# Altium footprint library CONN_TBLOCK_6P35.PcbLib: 9 footprints
Each footprint in its own frame and in the unit in brackets; x right, y up, seen from the top. Pads: shape width x height; smd on the part's side, far side on the other; paste and mask are expansions set on the pad; w line width, h text height; cw(c..) or ccw(c..) is an arc to the next point about the centre after c.
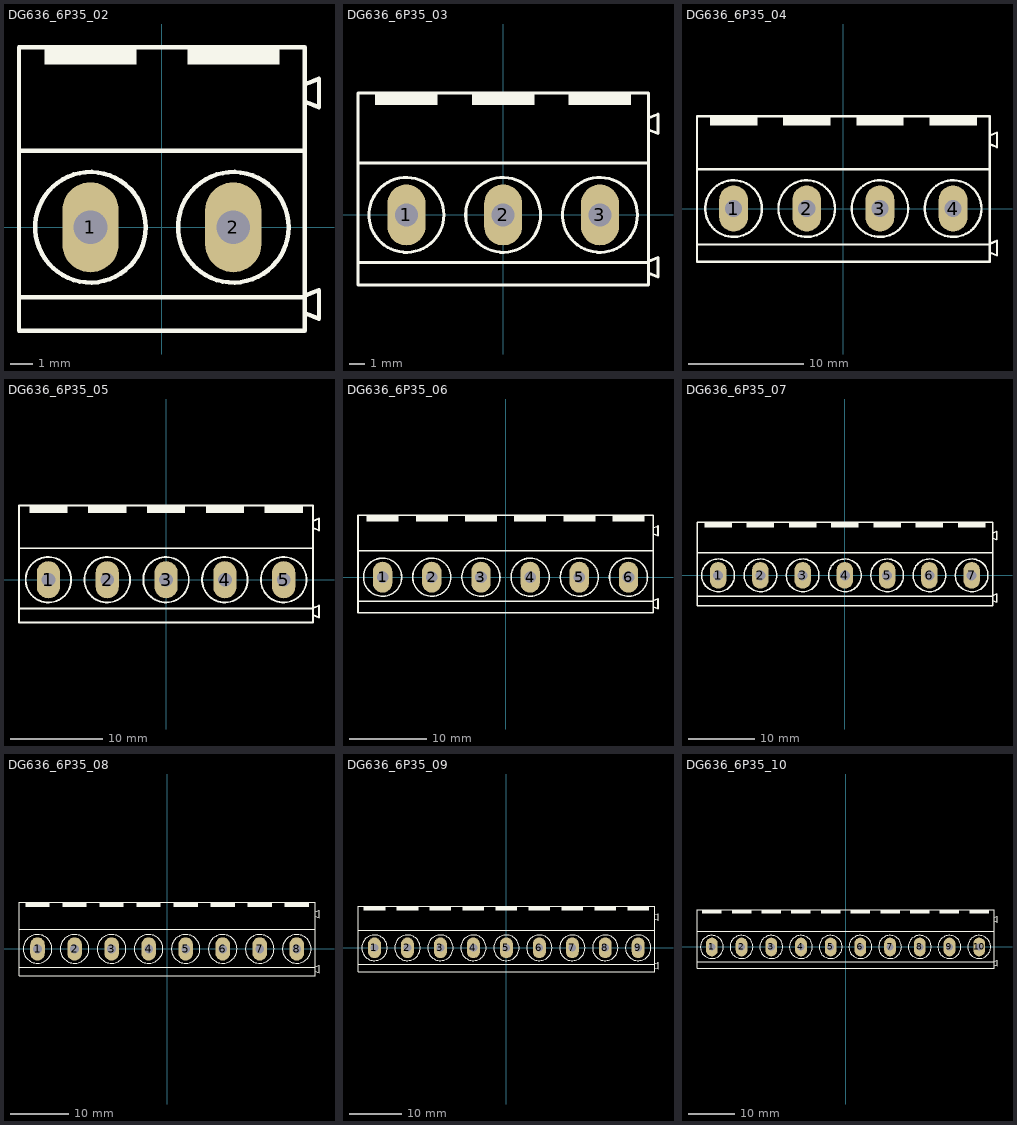
[diagram p0: the footprints below, top view; thin cyan lines are the x and y axes]

## DG636_6P35_02 [mm] "Terminal B Screw, pitch 6.35mm, H 21.5mm"
height 21.5
pads (2):
  oval 2.5x4 hole 1.5: 1(-3.175,0) 2(3.175,0)
Top Overlay:
  circle w0.2: c3.175,0 r2.457
  circle w0.2: c-3.175,0 r2.457
  region: 1.143,8.001 1.143,7.239 5.207,7.239 5.207,8.001
  region: -5.207,8.001 -5.207,7.239 -1.143,7.239 -1.143,8.001
  lines w0.2: -6.35,-3.115 6.35,-3.115 ; -6.35,3.403 6.35,3.403 ; 6.35,-3.81 6.985,-4.064 6.985,-2.794 6.35,-3.048 ; 6.35,5.588 6.985,5.334 6.985,6.604 6.35,6.35 ; -6.35,-4.6 6.35,-4.6 6.35,8.001 -6.35,8.001 -6.35,-4.6
3D body "691250610002.stp": height 21.6, standoff -4.9, extent -6.35,-4.6 6.95,7.9

## DG636_6P35_03 [mm] "Terminal B Screw, pitch 6.35mm, H 21.5mm"
height 21.5
pads (3):
  oval 2.5x4 hole 1.5: 1(-6.35,0) 2(0,0) 3(6.35,0)
Top Overlay:
  circle w0.2: c-6.35,0 r2.457
  circle w0.2: c0,0 r2.457
  circle w0.2: c6.35,0 r2.457
  region: -8.382,8.001 -8.382,7.239 -4.318,7.239 -4.318,8.001
  region: -2.032,8.001 -2.032,7.239 2.032,7.239 2.032,8.001
  region: 4.318,8.001 4.318,7.239 8.382,7.239 8.382,8.001
  lines w0.2: -9.525,-3.115 9.525,-3.115 ; -9.525,3.403 9.525,3.403 ; 9.525,-3.81 10.16,-4.064 10.16,-2.794 9.525,-3.048 ; 9.525,5.588 10.16,5.334 10.16,6.604 9.525,6.35 ; -9.525,-4.6 -9.525,8.001 9.525,8.001 9.525,-4.6 -9.525,-4.6
3D body "DG636-6.35-03P-1Y-00A&Z(H).stp": height 21.6, standoff -4.9, extent -9.546,-4.572 10.054,7.928

## DG636_6P35_04 [mm] "Terminal B Screw, pitch 6.35mm, H 21.5mm"
height 21.5
pads (4):
  oval 2.5x4 hole 1.5: 1(-9.525,0) 2(-3.175,0) 3(3.175,0) 4(9.525,0)
Top Overlay:
  circle w0.2: c-9.525,0 r2.457
  circle w0.2: c-3.175,0 r2.457
  circle w0.2: c3.175,0 r2.457
  circle w0.2: c9.525,0 r2.457
  region: -11.557,8.001 -11.557,7.239 -7.493,7.239 -7.493,8.001
  region: -5.207,8.001 -5.207,7.239 -1.143,7.239 -1.143,8.001
  region: 1.143,8.001 1.143,7.239 5.207,7.239 5.207,8.001
  region: 7.493,8.001 7.493,7.239 11.557,7.239 11.557,8.001
  lines w0.2: -12.7,-3.115 12.7,-3.115 ; -12.7,3.403 12.7,3.403 ; 12.7,-3.81 13.335,-4.064 13.335,-2.794 12.7,-3.048 ; 12.7,5.588 13.335,5.334 13.335,6.604 12.7,6.35 ; -12.7,-4.6 -12.7,8.001 12.7,8.001 12.7,-4.6 -12.7,-4.6
3D body "DG636-6.35-04P-1Y-00A&Z(H).stp": height 21.6, standoff -4.9, extent -12.721,-4.572 13.229,7.928

## DG636_6P35_05 [mm] "Terminal B Screw, pitch 6.35mm, H 21.5mm"
height 21.5
pads (5):
  oval 2.5x4 hole 1.5: 1(-12.7,0) 2(-6.35,0) 3(0,0) 4(6.35,0) 5(12.7,0)
Top Overlay:
  circle w0.2: c-12.7,0 r2.457
  circle w0.2: c-6.35,0 r2.457
  circle w0.2: c0,0 r2.457
  circle w0.2: c6.35,0 r2.457
  circle w0.2: c12.7,0 r2.457
  region: -14.732,8.001 -14.732,7.239 -10.668,7.239 -10.668,8.001
  region: -8.382,8.001 -8.382,7.239 -4.318,7.239 -4.318,8.001
  region: -2.032,8.001 -2.032,7.239 2.032,7.239 2.032,8.001
  region: 4.318,8.001 4.318,7.239 8.382,7.239 8.382,8.001
  region: 10.668,8.001 10.668,7.239 14.732,7.239 14.732,8.001
  lines w0.2: -15.875,-3.115 15.875,-3.115 ; -15.875,3.403 15.875,3.403 ; 15.875,-3.81 16.51,-4.064 16.51,-2.794 15.875,-3.048 ; 15.875,5.588 16.51,5.334 16.51,6.604 15.875,6.35 ; -15.875,-4.6 -15.875,8.001 15.875,8.001 15.875,-4.6 -15.875,-4.6
3D body "DG636-6.35-05P-1Y-00A&Z(H).stp": height 21.6, standoff -4.9, extent -15.896,-4.572 16.404,7.928

## DG636_6P35_06 [mm] "Terminal B Screw, pitch 6.35mm, H 21.5mm"
height 21.5
pads (6):
  oval 2.5x4 hole 1.5: 1(-15.875,0) 2(-9.525,0) 3(-3.175,0) 4(3.175,0) 5(9.525,0) 6(15.875,0)
Top Overlay:
  circle w0.2: c-15.875,0 r2.457
  circle w0.2: c-9.525,0 r2.457
  circle w0.2: c-3.175,0 r2.457
  circle w0.2: c3.175,0 r2.457
  circle w0.2: c9.525,0 r2.457
  circle w0.2: c15.875,0 r2.457
  region: -17.907,8.001 -17.907,7.239 -13.843,7.239 -13.843,8.001
  region: -11.557,8.001 -11.557,7.239 -7.493,7.239 -7.493,8.001
  region: -5.207,8.001 -5.207,7.239 -1.143,7.239 -1.143,8.001
  region: 1.143,8.001 1.143,7.239 5.207,7.239 5.207,8.001
  region: 7.493,8.001 7.493,7.239 11.557,7.239 11.557,8.001
  region: 13.843,8.001 13.843,7.239 17.907,7.239 17.907,8.001
  lines w0.2: -19.05,-3.115 19.05,-3.115 ; -19.05,3.403 19.05,3.403 ; 19.05,-3.81 19.685,-4.064 19.685,-2.794 19.05,-3.048 ; 19.05,5.588 19.685,5.334 19.685,6.604 19.05,6.35 ; -19.05,-4.6 -19.05,8.001 19.05,8.001 19.05,-4.6 -19.05,-4.6
3D body "DG636-6.35-06P-1Y-00A&Z(H).stp": height 21.6, standoff -4.9, extent -19.071,-4.572 19.579,7.928

## DG636_6P35_07 [mm] "Terminal B Screw, pitch 6.35mm, H 21.5mm"
height 21.5
pads (7):
  oval 2.5x4 hole 1.5: 1(-19.05,0) 2(-12.7,0) 3(-6.35,0) 4(0,0) 5(6.35,0) 6(12.7,0) 7(19.05,0)
Top Overlay:
  circle w0.2: c-19.05,0 r2.457
  circle w0.2: c-12.7,0 r2.457
  circle w0.2: c-6.35,0 r2.457
  circle w0.2: c0,0 r2.457
  circle w0.2: c6.35,0 r2.457
  circle w0.2: c12.7,0 r2.457
  circle w0.2: c19.05,0 r2.457
  region: -21.082,8.001 -21.082,7.239 -17.018,7.239 -17.018,8.001
  region: -14.732,8.001 -14.732,7.239 -10.668,7.239 -10.668,8.001
  region: -8.382,8.001 -8.382,7.239 -4.318,7.239 -4.318,8.001
  region: -2.032,8.001 -2.032,7.239 2.032,7.239 2.032,8.001
  region: 4.318,8.001 4.318,7.239 8.382,7.239 8.382,8.001
  region: 10.668,8.001 10.668,7.239 14.732,7.239 14.732,8.001
  region: 17.018,8.001 17.018,7.239 21.082,7.239 21.082,8.001
  lines w0.2: -22.225,-3.115 22.225,-3.115 ; -22.225,3.403 22.225,3.403 ; 22.225,-3.81 22.86,-4.064 22.86,-2.794 22.225,-3.048 ; 22.225,5.588 22.86,5.334 22.86,6.604 22.225,6.35 ; -22.225,-4.6 -22.225,8.001 22.225,8.001 22.225,-4.6 -22.225,-4.6
3D body "DG636-6.35-07P-1Y-00A&Z(H).stp": height 21.6, standoff -4.9, extent -22.246,-4.572 22.754,7.928

## DG636_6P35_08 [mm] "Terminal B Screw, pitch 6.35mm, H 21.5mm"
height 21.5
pads (8):
  oval 2.5x4 hole 1.5: 1(-22.225,0) 2(-15.875,0) 3(-9.525,0) 4(-3.175,0) 5(3.175,0) 6(9.525,0) 7(15.875,0) 8(22.225,0)
Top Overlay:
  circle w0.2: c-22.225,0 r2.457
  circle w0.2: c-15.875,0 r2.457
  circle w0.2: c-9.525,0 r2.457
  circle w0.2: c-3.175,0 r2.457
  circle w0.2: c3.175,0 r2.457
  circle w0.2: c9.525,0 r2.457
  circle w0.2: c15.875,0 r2.457
  circle w0.2: c22.225,0 r2.457
  region: -24.257,8.001 -24.257,7.239 -20.193,7.239 -20.193,8.001
  region: -17.907,8.001 -17.907,7.239 -13.843,7.239 -13.843,8.001
  region: -11.557,8.001 -11.557,7.239 -7.493,7.239 -7.493,8.001
  region: -5.207,8.001 -5.207,7.239 -1.143,7.239 -1.143,8.001
  region: 1.143,8.001 1.143,7.239 5.207,7.239 5.207,8.001
  region: 7.493,8.001 7.493,7.239 11.557,7.239 11.557,8.001
  region: 13.843,8.001 13.843,7.239 17.907,7.239 17.907,8.001
  region: 20.193,8.001 20.193,7.239 24.257,7.239 24.257,8.001
  lines w0.2: -25.4,-3.115 25.4,-3.115 ; -25.4,3.403 25.4,3.403 ; 25.4,-3.81 26.035,-4.064 26.035,-2.794 25.4,-3.048 ; 25.4,5.588 26.035,5.334 26.035,6.604 25.4,6.35 ; -25.4,-4.6 -25.4,8.001 25.4,8.001 25.4,-4.6 -25.4,-4.6
3D body "DG636-6.35-08P-1Y-00A&Z(H).stp": height 21.6, standoff -4.9, extent -25.421,-4.572 25.929,7.928

## DG636_6P35_09 [mm] "Terminal B Screw, pitch 6.35mm, H 21.5mm"
height 21.5
pads (9):
  oval 2.5x4 hole 1.5: 1(-25.4,0) 2(-19.05,0) 3(-12.7,0) 4(-6.35,0) 5(0,0) 6(6.35,0) 7(12.7,0) 8(19.05,0) 9(25.4,0)
Top Overlay:
  circle w0.2: c25.4,0 r2.457
  circle w0.2: c19.05,0 r2.457
  circle w0.2: c12.7,0 r2.457
  circle w0.2: c6.35,0 r2.457
  circle w0.2: c0,0 r2.457
  circle w0.2: c-6.35,0 r2.457
  circle w0.2: c-12.7,0 r2.457
  circle w0.2: c-19.05,0 r2.457
  circle w0.2: c-25.4,0 r2.457
  region: 23.368,8.001 23.368,7.239 27.432,7.239 27.432,8.001
  region: 17.018,8.001 17.018,7.239 21.082,7.239 21.082,8.001
  region: 10.668,8.001 10.668,7.239 14.732,7.239 14.732,8.001
  region: 4.318,8.001 4.318,7.239 8.382,7.239 8.382,8.001
  region: -2.032,8.001 -2.032,7.239 2.032,7.239 2.032,8.001
  region: -8.382,8.001 -8.382,7.239 -4.318,7.239 -4.318,8.001
  region: -14.732,8.001 -14.732,7.239 -10.668,7.239 -10.668,8.001
  region: -21.082,8.001 -21.082,7.239 -17.018,7.239 -17.018,8.001
  region: -27.432,8.001 -27.432,7.239 -23.368,7.239 -23.368,8.001
  lines w0.2: -28.575,-3.115 28.575,-3.115 ; -28.575,3.403 28.575,3.403 ; 28.575,-3.81 29.21,-4.064 29.21,-2.794 28.575,-3.048 ; 28.575,5.588 29.21,5.334 29.21,6.604 28.575,6.35 ; -28.575,-4.6 28.575,-4.6 28.575,8.001 -28.575,8.001 -28.575,-4.6
3D body "DG636-6.35-09P-1Y-00A&Z(H).stp": height 21.6, standoff -4.9, extent -28.596,-4.572 29.104,7.928

## DG636_6P35_10 [mm] "Terminal B Screw, pitch 6.35mm, H 21.5mm"
height 21.5
pads (10):
  oval 2.5x4 hole 1.5: 1(-28.575,0) 2(-22.225,0) 3(-15.875,0) 4(-9.525,0) 5(-3.175,0) 6(3.175,0) 7(9.525,0) 8(15.875,0) 9(22.225,0) 10(28.575,0)
Top Overlay:
  circle w0.2: c-28.575,0 r2.457
  circle w0.2: c-22.225,0 r2.457
  circle w0.2: c-15.875,0 r2.457
  circle w0.2: c-9.525,0 r2.457
  circle w0.2: c-3.175,0 r2.457
  circle w0.2: c3.175,0 r2.457
  circle w0.2: c9.525,0 r2.457
  circle w0.2: c15.875,0 r2.457
  circle w0.2: c22.225,0 r2.457
  circle w0.2: c28.575,0 r2.457
  region: -30.607,8.001 -30.607,7.239 -26.543,7.239 -26.543,8.001
  region: -24.257,8.001 -24.257,7.239 -20.193,7.239 -20.193,8.001
  region: -17.907,8.001 -17.907,7.239 -13.843,7.239 -13.843,8.001
  region: -11.557,8.001 -11.557,7.239 -7.493,7.239 -7.493,8.001
  region: -5.207,8.001 -5.207,7.239 -1.143,7.239 -1.143,8.001
  region: 1.143,8.001 1.143,7.239 5.207,7.239 5.207,8.001
  region: 7.493,8.001 7.493,7.239 11.557,7.239 11.557,8.001
  region: 13.843,8.001 13.843,7.239 17.907,7.239 17.907,8.001
  region: 20.193,8.001 20.193,7.239 24.257,7.239 24.257,8.001
  region: 26.543,8.001 26.543,7.239 30.607,7.239 30.607,8.001
  lines w0.2: -31.75,-3.115 31.75,-3.115 ; -31.75,3.403 31.75,3.403 ; 31.75,-3.81 32.385,-4.064 32.385,-2.794 31.75,-3.048 ; 31.75,5.588 32.385,5.334 32.385,6.604 31.75,6.35 ; -31.75,-4.6 -31.75,8.001 31.75,8.001 31.75,-4.6 -31.75,-4.6
3D body "DG636-6.35-10P-1Y-00A&Z(H).stp": height 21.6, standoff -4.9, extent -31.771,-4.572 32.279,7.928